# Altium schematic symbol library Stm8_PCB.SchLib: 5 symbols
Pins are listed as number, name and electrical type; pins without a type are passive.

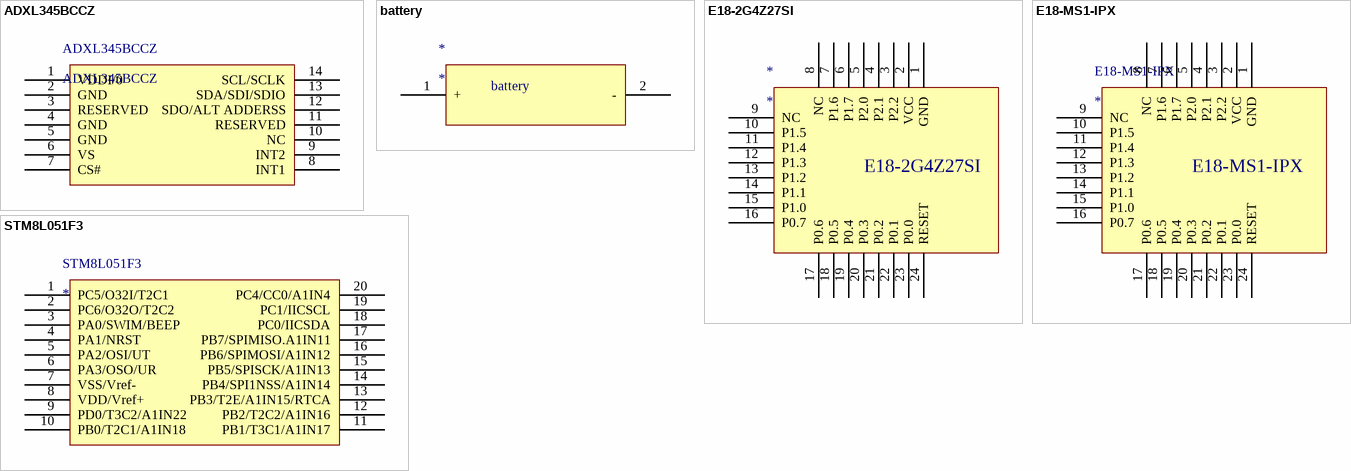
[diagram p0: symbols ADXL345BCCZ to STM8L051F3]

## ADXL345BCCZ
designator ADXL345BCCZ
footprint LGA-14_L5.0-W3.0-P0.80-BL
pins: 1 VDDI/0, 2 GND, 3 RESERVED, 4 GND, 5 GND, 6 VS, 7 CS#, 8 INT1, 9 INT2, 10 NC, 11 RESERVED, 12 SDO/ALT ADDERSS, 13 SDA/SDI/SDIO, 14 SCL/SCLK

## battery
designator *
footprint battery
pins: 1 +, 2 -

## E18-2G4Z27SI
designator *
footprint PE18-MS1PA1-IPX (22.5mm*16mm*2.40mm-S)
pins: 1 GND, 2 VCC, 3 P2.2, 4 P2.1, 5 P2.0, 6 P1.7, 7 P1.6, 8 NC, 9 NC, 10 P1.5, 11 P1.4, 12 P1.3, 13 P1.2, 14 P1.1, 15 P1.0, 16 P0.7, 17 P0.6, 18 P0.5, 19 P0.4, 20 P0.3, 21 P0.2, 22 P0.1, 23 P0.0, 24 RESET

## E18-MS1-IPX
designator E18-MS1-IPX
footprint PE18-MS1-IPX (20.8mm*14.1mm*2.40mm-S)
pins: 1 GND, 2 VCC, 3 P2.2, 4 P2.1, 5 P2.0, 6 P1.7, 7 P1.6, 8 NC, 9 NC, 10 P1.5, 11 P1.4, 12 P1.3, 13 P1.2, 14 P1.1, 15 P1.0, 16 P0.7, 17 P0.6, 18 P0.5, 19 P0.4, 20 P0.3, 21 P0.2, 22 P0.1, 23 P0.0, 24 RESET

## STM8L051F3
designator STM8L051F3
footprint STM8L051F3
pins: 1 PC5/O32I/T2C1, 2 PC6/O32O/T2C2, 3 PA0/SWIM/BEEP, 4 PA1/NRST, 5 PA2/OSI/UT, 6 PA3/OSO/UR, 7 VSS/Vref-, 8 VDD/Vref+, 9 PD0/T3C2/A1IN22, 10 PB0/T2C1/A1IN18, 11 PB1/T3C1/A1IN17, 12 PB2/T2C2/A1IN16, 13 PB3/T2E/A1IN15/RTCA, 14 PB4/SPI1NSS/A1IN14, 15 PB5/SPISCK/A1IN13, 16 PB6/SPIMOSI/A1IN12, 17 PB7/SPIMISO.A1IN11, 18 PC0/IICSDA, 19 PC1/IICSCL, 20 PC4/CC0/A1IN4